# Altium footprint library PS9905.PcbLib: 1 footprints
Each footprint in its own frame and in the unit in brackets; x right, y up, seen from the top. Pads: shape width x height; smd on the part's side, far side on the other; paste and mask are expansions set on the pad; w line width, h text height; cw(c..) or ccw(c..) is an arc to the next point about the centre after c.
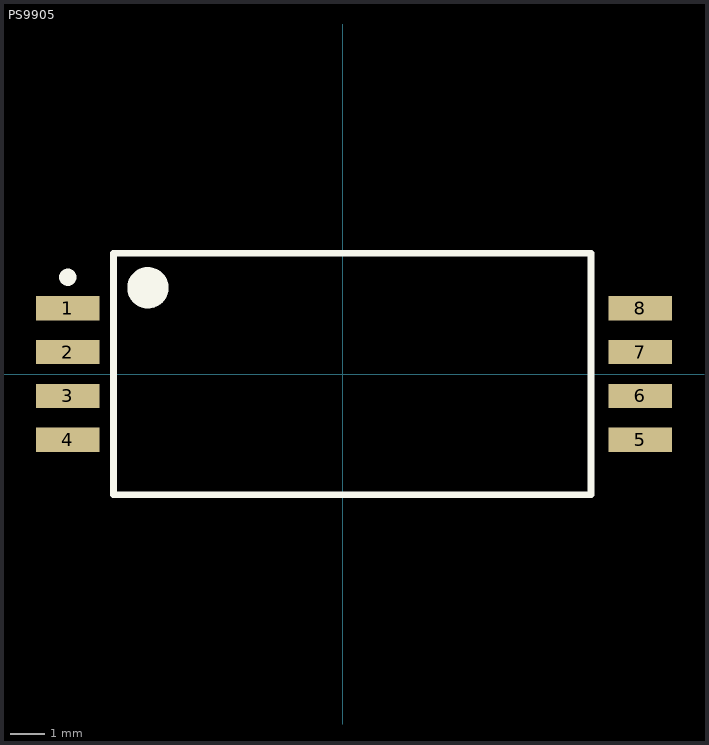
[diagram p0: the footprint, top view; thin cyan lines are the x and y axes]

## PS9905 [mm] "2.5A Gate Driver Optical Coupling 7500Vrms 1 Channel 8-LSDIP"
height 3.95
pads (8):
  rect 1.85x0.7 smd: 1(-7.975,1.905) 2(-7.975,0.635) 3(-7.975,-0.635) 4(-7.975,-1.905) 5(8.625,-1.905) 6(8.625,-0.635) 7(8.625,0.635) 8(8.625,1.905)
Top Overlay:
  circle w0.6: c-5.65,2.5 r0.3
  circle w0.25: c-7.975,2.805 r0.125
  lines w0.2: -6.65,-3.5 7.2,-3.5 7.2,3.5 -6.65,3.5 -6.65,-3.5